# Altium footprint library National Semiconductor Footprints.PcbLib: 194 footprints (part 6 of 13)
Each footprint in its own frame and in the unit in brackets; x right, y up, seen from the top. Pads: shape width x height; smd on the part's side, far side on the other; paste and mask are expansions set on the pad; w line width, h text height; cw(c..) or ccw(c..) is an arc to the next point about the centre after c.
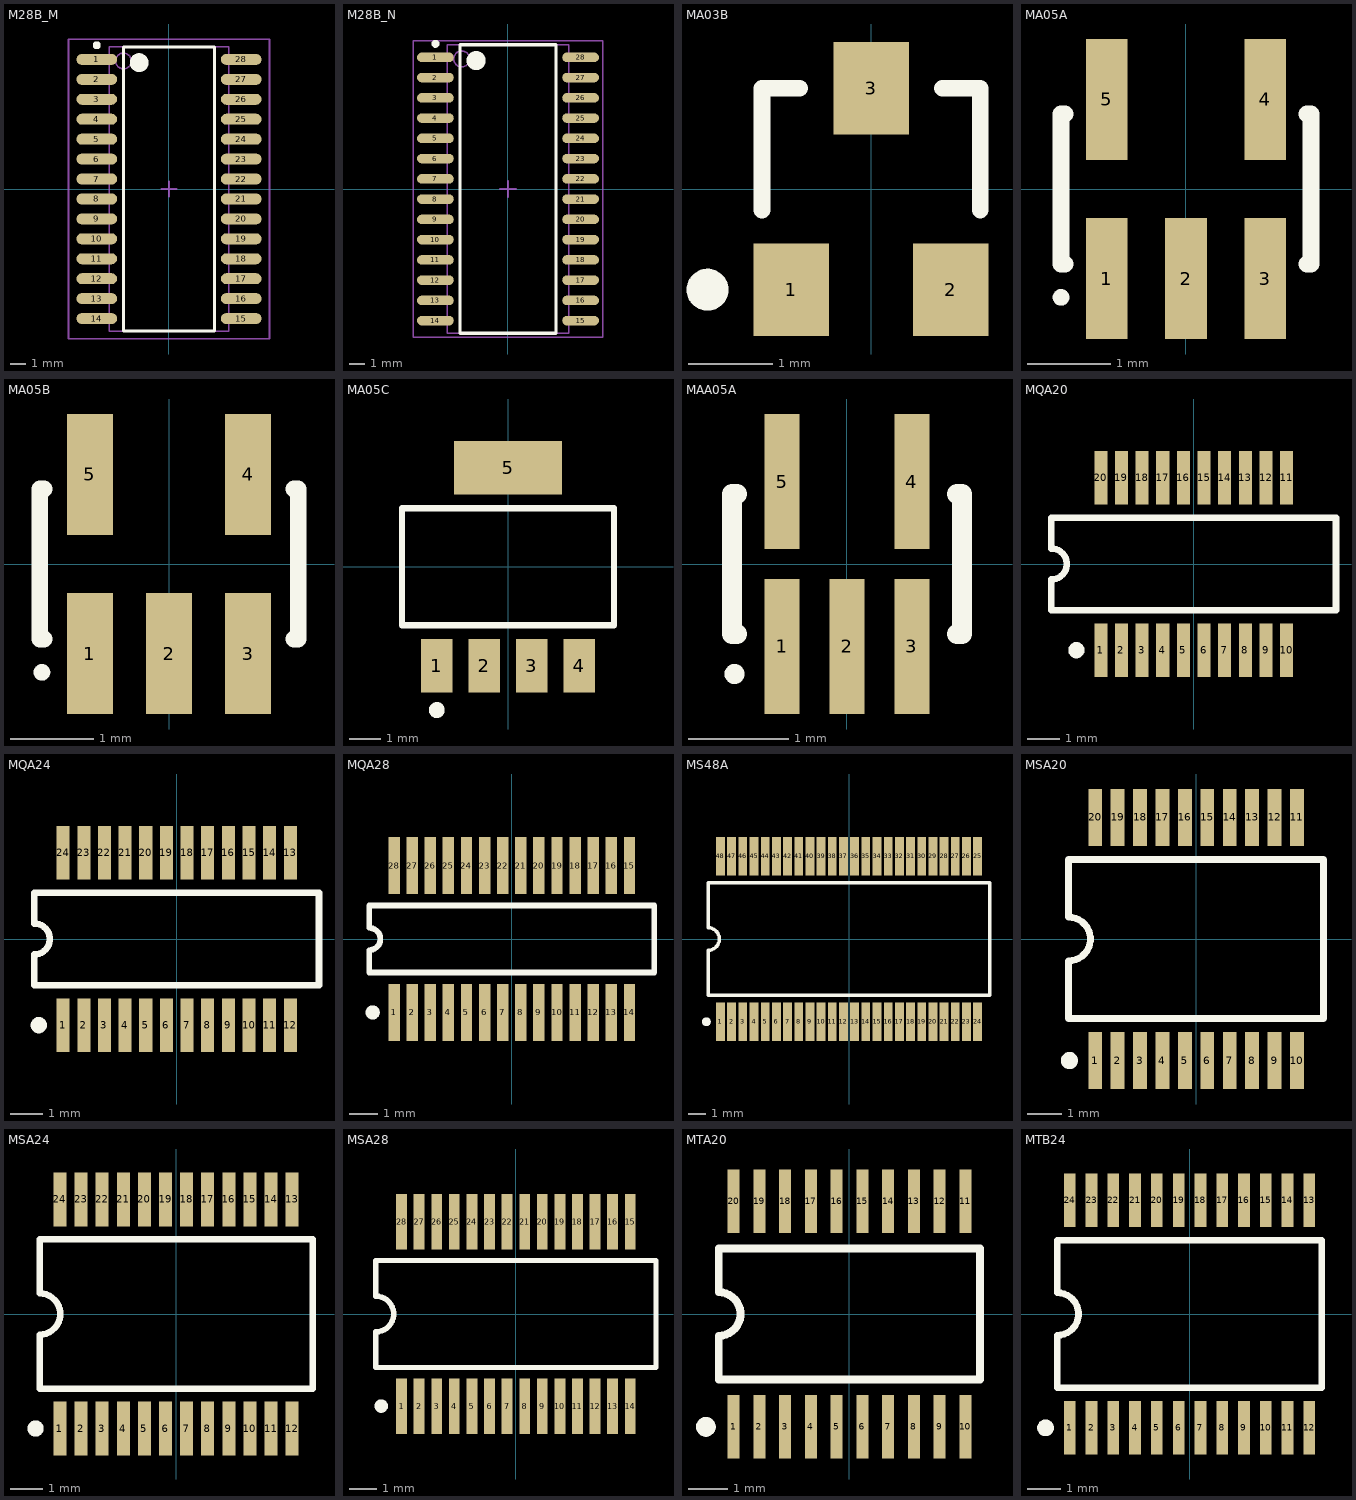
[diagram p5: the footprints below, top view; thin cyan lines are the x and y axes]

## M28B_M [mm] "28-Pin Small Outline Integrated Circuit 1.27 mm Pitch, IPC Low Density"
height 2.64
pads (28):
  oval 2.6x0.7 smd: 1(-4.6,8.255) 2(-4.6,6.985) 3(-4.6,5.715) 4(-4.6,4.445) 5(-4.6,3.175) 6(-4.6,1.905) 7(-4.6,0.635) 8(-4.6,-0.635) 9(-4.6,-1.905) 10(-4.6,-3.175) 11(-4.6,-4.445) 12(-4.6,-5.715) 13(-4.6,-6.985) 14(-4.6,-8.255) 15(4.6,-8.255) 16(4.6,-6.985) 17(4.6,-5.715) 18(4.6,-4.445) 19(4.6,-3.175) 20(4.6,-1.905) 21(4.6,-0.635) 22(4.6,0.635) 23(4.6,1.905) 24(4.6,3.175) 25(4.6,4.445) 26(4.6,5.715) 27(4.6,6.985) 28(4.6,8.255)
Top Overlay:
  circle w0.25: c-4.6,9.155 r0.125
  circle w0.6: c-1.9,8.05 r0.3
  lines w0.2: -2.9,-9.05 -2.9,9.05 2.9,9.05 2.9,-9.05 -2.9,-9.05
Mechanical 13:
  circle w0.1: c-2.9,8.155 r0.5
  lines w0.1: -3.8,-9.055 -3.8,9.055 3.8,9.055 3.8,-9.055 -3.8,-9.055
Mechanical 15:
  lines w0.1: -0.5,0 0.5,0 ; 0,-0.5 0,0.5 ; -6.4,-9.55 -6.4,9.55 6.4,9.55 6.4,-9.55 -6.4,-9.55
3D body: height 2.64, standoff 0, extent -3.8,-9.055 3.8,9.055

## M28B_N [mm] "28-Pin Small Outline Integrated Circuit 1.27 mm Pitch, IPC Medium Density"
height 2.64
pads (28):
  oval 2.3x0.6 smd: 1(-4.55,8.255) 2(-4.55,6.985) 3(-4.55,5.715) 4(-4.55,4.445) 5(-4.55,3.175) 6(-4.55,1.905) 7(-4.55,0.635) 8(-4.55,-0.635) 9(-4.55,-1.905) 10(-4.55,-3.175) 11(-4.55,-4.445) 12(-4.55,-5.715) 13(-4.55,-6.985) 14(-4.55,-8.255) 15(4.55,-8.255) 16(4.55,-6.985) 17(4.55,-5.715) 18(4.55,-4.445) 19(4.55,-3.175) 20(4.55,-1.905) 21(4.55,-0.635) 22(4.55,0.635) 23(4.55,1.905) 24(4.55,3.175) 25(4.55,4.445) 26(4.55,5.715) 27(4.55,6.985) 28(4.55,8.255)
Top Overlay:
  circle w0.25: c-4.55,9.105 r0.125
  circle w0.6: c-2,8.05 r0.3
  lines w0.2: -3,-9.05 -3,9.05 3,9.05 3,-9.05 -3,-9.05
Mechanical 13:
  circle w0.1: c-2.9,8.155 r0.5
  lines w0.1: -3.8,-9.055 -3.8,9.055 3.8,9.055 3.8,-9.055 -3.8,-9.055
Mechanical 15:
  lines w0.1: -0.5,0 0.5,0 ; 0,-0.5 0,0.5 ; -5.95,-9.3 -5.95,9.3 5.95,9.3 5.95,-9.3 -5.95,-9.3
3D body: height 2.64, standoff 0, extent -3.8,-9.055 3.8,9.055

## MA03B [mm] "SOT-23; 3 Leads; Body 3.0 x 2.6 mm, inc. leads (LxW max)"
height 1.12
pads (3):
  rect 0.9x1.1 smd: 1(-0.95,-1.2) 2(0.95,-1.2) 3(0,1.2)
Top Overlay:
  circle w0.25: c-1.95,-1.2 r0.125
  lines w0.2: -1.3,-0.25 -1.3,1.2 -0.85,1.2 ; 0.85,1.2 1.3,1.2 1.3,-0.25

## MA05A [mm] "SOT-23/SC-74A; 5 Leads; Body 3 x 3 mm, inc. leads (LxW max)"
height 1.42
pads (5):
  rect 0.5x1.45 smd: 1(-0.95,-1.075) 2(0,-1.075) 3(0.95,-1.075) 4(0.95,1.075) 5(-0.95,1.075)
Top Overlay:
  circle w0.1: c-1.5,-1.3 r0.05
  lines w0.2: -1.45,-0.9 -1.5,-0.9 -1.5,0.9 -1.45,0.9 ; 1.45,-0.9 1.5,-0.9 1.5,0.9 1.45,0.9

## MA05B [mm] "SOT-23/SC-74A; 5 Leads; Body 3 x 3 mm, inc. leads (LxW max)"
height 1.22
pads (5):
  rect 0.55x1.45 smd: 1(-0.95,-1.075) 2(0,-1.075) 3(0.95,-1.075) 4(0.95,1.075) 5(-0.95,1.075)
Top Overlay:
  circle w0.1: c-1.525,-1.3 r0.05
  lines w0.2: -1.5,-0.9 -1.55,-0.9 -1.55,0.9 -1.5,0.9 ; 1.5,-0.9 1.55,-0.9 1.55,0.9 1.5,0.9

## MA05C [mm] "SOT-223; 5 Leads; Body 6.7 x 7.3 mm, inc. leads (LxW max)"
height 1.8
pads (5):
  rect 1x1.7 smd: 1(-2.25,-3.125) 2(-0.75,-3.125) 3(0.75,-3.125) 4(2.25,-3.125)
  rect 3.4x1.7 smd: 5(0,3.125)
Top Overlay:
  circle w0.25: c-2.25,-4.525 r0.125
  lines w0.2: -3.35,-1.85 3.35,-1.85 3.35,1.85 -3.35,1.85 -3.35,-1.85

## MAA05A [mm] "SOT-353/SC-88A; 5 Leads; Body 2.1 x 2.4 mm, inc. leads (LxW max)"
height 1.1
pads (5):
  rect 0.35x1.35 smd: 1(-0.65,-0.825) 2(0,-0.825) 3(0.65,-0.825) 4(0.65,0.825) 5(-0.65,0.825)
Top Overlay:
  circle w0.1: c-1.125,-1.1 r0.05
  lines w0.2: -1.1,-0.7 -1.15,-0.7 -1.15,0.7 -1.1,0.7 ; 1.1,-0.7 1.15,-0.7 1.15,0.7 1.1,0.7

## MQA20 [mm] "SSOP; 20 Leads; Body Width 3.9 mm; Pitch 0.635 mm"
height 1.73
pads (20):
  rect 0.4x1.65 smd: 1(-2.857,-2.65) 2(-2.222,-2.65) 3(-1.587,-2.65) 4(-0.953,-2.65) 5(-0.318,-2.65) 6(0.318,-2.65) 7(0.953,-2.65) 8(1.587,-2.65) 9(2.222,-2.65) 10(2.857,-2.65) 11(2.857,2.65) 12(2.222,2.65) 13(1.587,2.65) 14(0.953,2.65) 15(0.318,2.65) 16(-0.318,2.65) 17(-0.953,2.65) 18(-1.587,2.65) 19(-2.222,2.65) 20(-2.857,2.65)
Top Overlay:
  circle w0.25: c-3.608,-2.65 r0.125
  lines w0.2: -4.375,-1.425 -4.375,-0.475 ccw(c-4.375,0) -4.375,0.475 -4.375,1.425 4.375,1.425 4.375,-1.425 -4.375,-1.425

## MQA24 [mm] "SSOP; 24 Leads; Body Width 3.9 mm; Pitch 0.635 mm"
height 1.73
pads (24):
  rect 0.4x1.65 smd: 1(-3.492,-2.65) 2(-2.857,-2.65) 3(-2.222,-2.65) 4(-1.587,-2.65) 5(-0.953,-2.65) 6(-0.318,-2.65) 7(0.318,-2.65) 8(0.953,-2.65) 9(1.587,-2.65) 10(2.222,-2.65) 11(2.857,-2.65) 12(3.492,-2.65) 13(3.492,2.65) 14(2.857,2.65) 15(2.222,2.65) 16(1.587,2.65) 17(0.953,2.65) 18(0.318,2.65) 19(-0.318,2.65) 20(-0.953,2.65) 21(-1.587,2.65) 22(-2.222,2.65) 23(-2.857,2.65) 24(-3.492,2.65)
Top Overlay:
  circle w0.25: c-4.243,-2.65 r0.125
  lines w0.2: -4.375,-1.425 -4.375,-0.475 ccw(c-4.375,0) -4.375,0.475 -4.375,1.425 4.375,1.425 4.375,-1.425 -4.375,-1.425

## MQA28 [mm] "SSOP; 28 Leads; Body Width 3.9 mm; Pitch 0.635 mm"
height 1.73
pads (28):
  rect 0.4x2 smd: 1(-4.127,-2.575) 2(-3.492,-2.575) 3(-2.857,-2.575) 4(-2.222,-2.575) 5(-1.587,-2.575) 6(-0.953,-2.575) 7(-0.318,-2.575) 8(0.318,-2.575) 9(0.953,-2.575) 10(1.587,-2.575) 11(2.222,-2.575) 12(2.857,-2.575) 13(3.492,-2.575) 14(4.127,-2.575) 15(4.127,2.575) 16(3.492,2.575) 17(2.857,2.575) 18(2.222,2.575) 19(1.587,2.575) 20(0.953,2.575) 21(0.318,2.575) 22(-0.318,2.575) 23(-0.953,2.575) 24(-1.587,2.575) 25(-2.222,2.575) 26(-2.857,2.575) 27(-3.492,2.575) 28(-4.127,2.575)
Top Overlay:
  circle w0.25: c-4.878,-2.575 r0.125
  lines w0.2: -5,-1.175 -5,-0.392 ccw(c-5,0) -5,0.392 -5,1.175 5,1.175 5,-1.175 -5,-1.175

## MS48A [mm] "SSOP; 48 Leads; Body Width 7.5 mm; Pitch 0.635 mm"
height 2.74
pads (48):
  rect 0.5x2.2 smd: 1(-7.302,-4.7) 2(-6.667,-4.7) 3(-6.032,-4.7) 4(-5.397,-4.7) 5(-4.763,-4.7) 6(-4.127,-4.7) 7(-3.492,-4.7) 8(-2.857,-4.7) 9(-2.222,-4.7) 10(-1.587,-4.7) 11(-0.953,-4.7) 12(-0.318,-4.7) 13(0.318,-4.7) 14(0.953,-4.7) 15(1.587,-4.7) 16(2.222,-4.7) 17(2.857,-4.7) 18(3.492,-4.7) 19(4.127,-4.7) 20(4.763,-4.7) 21(5.397,-4.7) 22(6.032,-4.7) 23(6.667,-4.7) 24(7.302,-4.7) 25(7.302,4.7) 26(6.667,4.7) 27(6.032,4.7) 28(5.397,4.7) 29(4.763,4.7) 30(4.127,4.7) 31(3.492,4.7) 32(2.857,4.7) 33(2.222,4.7) 34(1.587,4.7) 35(0.953,4.7) 36(0.318,4.7) 37(-0.318,4.7) 38(-0.953,4.7) 39(-1.587,4.7) 40(-2.222,4.7) 41(-2.857,4.7) 42(-3.492,4.7) 43(-4.127,4.7) 44(-4.763,4.7) 45(-5.397,4.7) 46(-6.032,4.7) 47(-6.667,4.7) 48(-7.302,4.7)
Top Overlay:
  circle w0.25: c-8.103,-4.7 r0.125
  lines w0.2: -8,-3.2 -8,-0.635 ccw(c-8,0) -8,0.635 -8,3.2 8,3.2 8,-3.2 -8,-3.2

## MSA20 [mm] "SSOP; 20 Leads; Body Width 5.3 mm; Pitch 0.65 mm"
height 2.02
pads (20):
  rect 0.4x1.65 smd: 1(-2.925,-3.525) 2(-2.275,-3.525) 3(-1.625,-3.525) 4(-0.975,-3.525) 5(-0.325,-3.525) 6(0.325,-3.525) 7(0.975,-3.525) 8(1.625,-3.525) 9(2.275,-3.525) 10(2.925,-3.525) 11(2.925,3.525) 12(2.275,3.525) 13(1.625,3.525) 14(0.975,3.525) 15(0.325,3.525) 16(-0.325,3.525) 17(-0.975,3.525) 18(-1.625,3.525) 19(-2.275,3.525) 20(-2.925,3.525)
Top Overlay:
  circle w0.25: c-3.675,-3.525 r0.125
  lines w0.2: -3.7,-2.3 3.7,-2.3 3.7,2.3 -3.7,2.3 -3.7,0.635 cw(c-3.7,0) -3.7,-0.635 -3.7,-2.3

## MSA24 [mm] "SSOP; 24 Leads; Body Width 5.3 mm; Pitch 0.65 mm"
height 2.02
pads (24):
  rect 0.4x1.65 smd: 1(-3.575,-3.525) 2(-2.925,-3.525) 3(-2.275,-3.525) 4(-1.625,-3.525) 5(-0.975,-3.525) 6(-0.325,-3.525) 7(0.325,-3.525) 8(0.975,-3.525) 9(1.625,-3.525) 10(2.275,-3.525) 11(2.925,-3.525) 12(3.575,-3.525) 13(3.575,3.525) 14(2.925,3.525) 15(2.275,3.525) 16(1.625,3.525) 17(0.975,3.525) 18(0.325,3.525) 19(-0.325,3.525) 20(-0.975,3.525) 21(-1.625,3.525) 22(-2.275,3.525) 23(-2.925,3.525) 24(-3.575,3.525)
Top Overlay:
  circle w0.25: c-4.325,-3.525 r0.125
  lines w0.2: -4.2,-2.3 4.2,-2.3 4.2,2.3 -4.2,2.3 -4.2,0.635 cw(c-4.2,0) -4.2,-0.635 -4.2,-2.3

## MSA28 [mm] "SSOP; 28 Leads; Body Width 5.3 mm; Pitch 0.65 mm"
height 2
pads (28):
  rect 0.4x2.05 smd: 1(-4.225,-3.4) 2(-3.575,-3.4) 3(-2.925,-3.4) 4(-2.275,-3.4) 5(-1.625,-3.4) 6(-0.975,-3.4) 7(-0.325,-3.4) 8(0.325,-3.4) 9(0.975,-3.4) 10(1.625,-3.4) 11(2.275,-3.4) 12(2.925,-3.4) 13(3.575,-3.4) 14(4.225,-3.4) 15(4.225,3.4) 16(3.575,3.4) 17(2.925,3.4) 18(2.275,3.4) 19(1.625,3.4) 20(0.975,3.4) 21(0.325,3.4) 22(-0.325,3.4) 23(-0.975,3.4) 24(-1.625,3.4) 25(-2.275,3.4) 26(-2.925,3.4) 27(-3.575,3.4) 28(-4.225,3.4)
Top Overlay:
  circle w0.25: c-4.975,-3.4 r0.125
  lines w0.2: -5.175,-1.975 -5.175,-0.658 ccw(c-5.175,0) -5.175,0.658 -5.175,1.975 5.175,1.975 5.175,-1.975 -5.175,-1.975

## MTA20 [mm] "Shrink Small Outline; 20 Leads; Body Width 4.4 mm; Pitch 0.65 mm"
height 1.2
pads (20):
  rect 0.3x1.6 smd: 1(-2.925,-2.85) 2(-2.275,-2.85) 3(-1.625,-2.85) 4(-0.975,-2.85) 5(-0.325,-2.85) 6(0.325,-2.85) 7(0.975,-2.85) 8(1.625,-2.85) 9(2.275,-2.85) 10(2.925,-2.85) 11(2.925,2.85) 12(2.275,2.85) 13(1.625,2.85) 14(0.975,2.85) 15(0.325,2.85) 16(-0.325,2.85) 17(-0.975,2.85) 18(-1.625,2.85) 19(-2.275,2.85) 20(-2.925,2.85)
Top Overlay:
  circle w0.25: c-3.625,-2.85 r0.125
  lines w0.2: -3.3,-1.65 -3.3,-0.55 ccw(c-3.3,0) -3.3,0.55 -3.3,1.65 3.3,1.65 3.3,-1.65 -3.3,-1.65

## MTB24 [mm] "SSOP; 24 Leads; Body Width 5.6 mm; Pitch 0.65 mm"
height 1.45
pads (24):
  rect 0.35x1.6 smd: 1(-3.575,-3.4) 2(-2.925,-3.4) 3(-2.275,-3.4) 4(-1.625,-3.4) 5(-0.975,-3.4) 6(-0.325,-3.4) 7(0.325,-3.4) 8(0.975,-3.4) 9(1.625,-3.4) 10(2.275,-3.4) 11(2.925,-3.4) 12(3.575,-3.4) 13(3.575,3.4) 14(2.925,3.4) 15(2.275,3.4) 16(1.625,3.4) 17(0.975,3.4) 18(0.325,3.4) 19(-0.325,3.4) 20(-0.975,3.4) 21(-1.625,3.4) 22(-2.275,3.4) 23(-2.925,3.4) 24(-3.575,3.4)
Top Overlay:
  circle w0.25: c-4.3,-3.4 r0.125
  lines w0.2: -3.95,-2.2 -3.95,-0.635 ccw(c-3.95,0) -3.95,0.635 -3.95,2.2 3.95,2.2 3.95,-2.2 -3.95,-2.2